# EAGLE library part MCP73837-FCI/UN (library Power > Battery Chargers)
Battery Charger
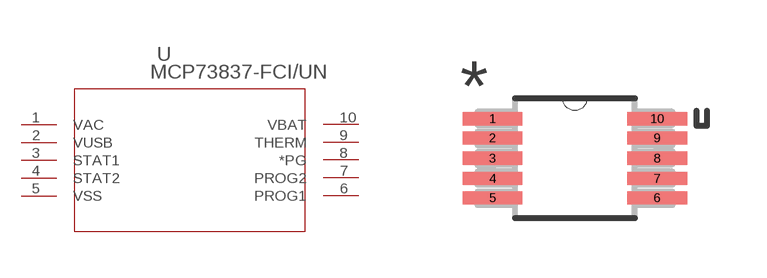
[diagram p1: symbol with the pads of SOP50P490X110-8N; footprint SOP50P490X110-8N]

Designator prefix -

## MCP73837-FCI/UN (DESCRIPTION: BATTERY CHARGER; MPN: MCP73837-FCI/UN; OC_FARNELL: 1675426; OC_NEWARK: 77M3068; PACKAGE: MSOP-8; SUPPLIER: Microchip)  [SOP50P490X110-8N]
1  VAC  pas
2  VUSB  pas
3  STAT1  pas
4  STAT2  pas
5  VSS  pas
6  PROG1  pas
7  PROG2  pas
8  *PG  pas
9  THERM  pas
10  VBAT  pas

## Footprint SOP50P490X110-8N (pad centres in mm)
smd 1.499 x 0.33: 1 -2.057,0.991; 2 -2.057,0.508; 3 -2.057,0; 4 -2.057,-0.508; 5 -2.057,-0.991; 6 2.057,-0.991; 7 2.057,-0.508; 8 2.057,0; 9 2.057,0.508; 10 2.057,0.991